# EAGLE library part R-ARRAY (library library3)
Resistor array
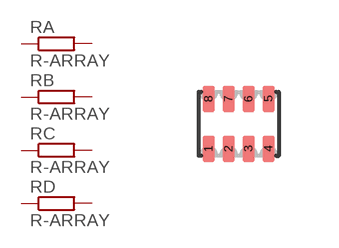
[diagram p0: symbol with the pads of R-ARRAY-YC248; footprint R-ARRAY-YC248]

Designator prefix R; gates A=R B=R C=R D=R

## R-ARRAY  [R-ARRAY-YC248]
1  A:1  pas
2  B:1  pas
3  C:1  pas
4  D:1  pas
5  D:2  pas
6  C:2  pas
7  B:2  pas
8  A:2  pas

## Footprint R-ARRAY-YC248 (pad centres in mm)
Resistor array x4
smd 0.3 x 0.65: 1 -0.75,-0.625; 2 -0.25,-0.625; 3 0.25,-0.625; 4 0.75,-0.625; 5 0.75,0.625; 6 0.25,0.625; 7 -0.25,0.625; 8 -0.75,0.625